# Altium schematic symbol library 1008LS-152XJLC.SchLib: 2 symbols
Pins are listed as number, name and electrical type; pins without a type are passive.

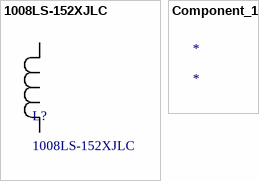
[diagram p0: symbols 1008LS-152XJLC to Component_1]

## 1008LS-152XJLC
designator L?
No Description Available; Mfr_Name: Coilcraft; Type: DEV; Copyright: Copyright (C) 2023 Ultra Librarian. All rights reserved.; Manufacturer_Part_Number: 1008LS-152XJLC; RefDes: RefDes
footprint IND_1008LS
pins: 1, 2

## Component_1
designator *